# EAGLE library part MAX3222 (library EELE_465)
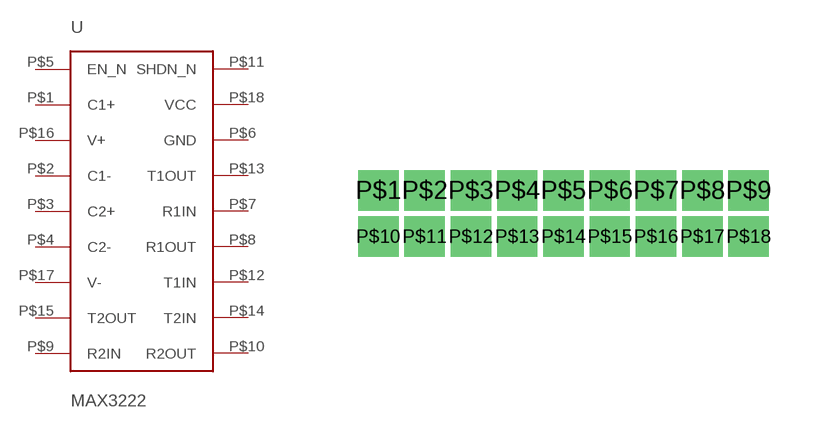
[diagram p4: symbol with the pads of MAX3222; footprint MAX3222]

Designator prefix -

## MAX3222  [MAX3222]
P$1  C1+
P$2  C1-
P$3  C2+
P$4  C2-
P$5  EN_N
P$6  GND
P$7  R1IN
P$8  R1OUT
P$9  R2IN
P$10  R2OUT
P$11  SHDN_N
P$12  T1IN
P$13  T1OUT
P$14  T2IN
P$15  T2OUT
P$16  V+
P$17  V-
P$18  VCC

## Footprint MAX3222 (pad centres in mm)
drill 0.6 square: P$1 0,0; P$2 1.27,0; P$3 2.54,0; P$4 3.81,0; P$5 5.08,0; P$6 6.35,0; P$7 7.62,0; P$8 8.89,0; P$9 10.16,0; P$10 0,-1.27; P$11 1.27,-1.27; P$12 2.54,-1.27; P$13 3.81,-1.27; P$14 5.08,-1.27; P$15 6.35,-1.27; P$16 7.62,-1.27; P$17 8.89,-1.27; P$18 10.16,-1.27